# EAGLE library part 2X3HEADER (library MM2x3Header)
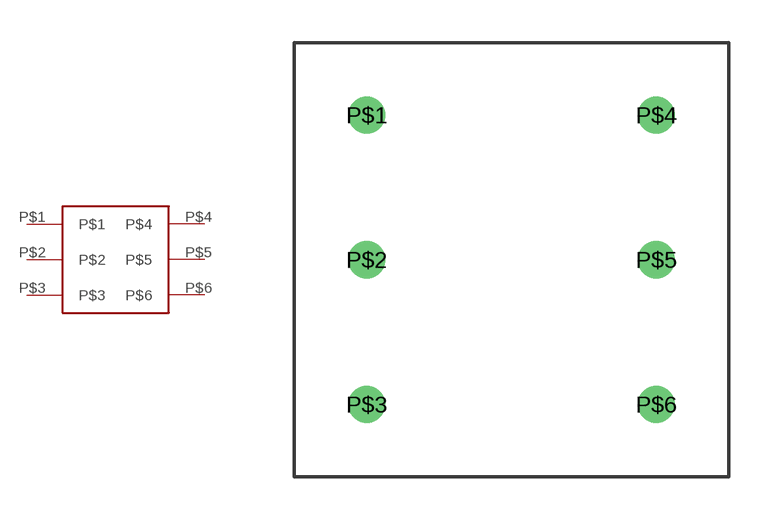
[diagram p0: symbol with the pads of 2X3HEADER; footprint 2X3HEADER]

Designator prefix -

## 2X3HEADER  [2X3HEADER]
P$1  P$1
P$2  P$2
P$3  P$3
P$4  P$4
P$5  P$5
P$6  P$6

## Footprint 2X3HEADER (pad centres in mm)
drill 0.8: P$1 -5.08,5.08; P$2 -5.08,0; P$3 -5.08,-5.08; P$4 5.08,5.08; P$5 5.08,0; P$6 5.08,-5.08